# Altium footprint library footprints.PcbLib: 1 footprints
Each footprint in its own frame and in the unit in brackets; x right, y up, seen from the top. Pads: shape width x height; smd on the part's side, far side on the other; paste and mask are expansions set on the pad; w line width, h text height; cw(c..) or ccw(c..) is an arc to the next point about the centre after c.
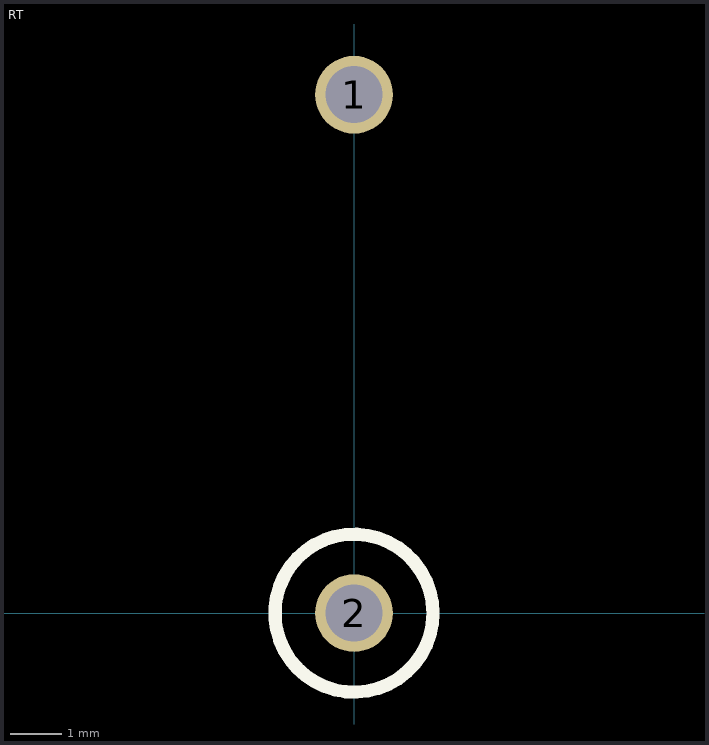
[diagram p0: the footprint, top view; thin cyan lines are the x and y axes]

## RT [mm]
pads (2):
  round 1.5 hole 1.1 mask+0.102: 1(0,10) 2(0,0)
Top Overlay:
  circle w0.254: c0,0 r1.524